# EAGLE library part GE06RP (library resistor-sil)
SIL RESISTOR
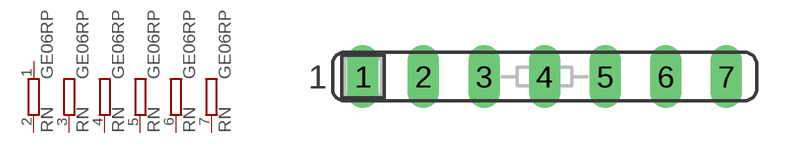
[diagram p29: symbol with the pads of SIL7; footprint SIL7]

Designator prefix RN; gates A=R-PV B=R-PV1 C=R-PV1 D=R-PV1 E=R-PV1 F=R-PV1

## GE06RP (OC_FARNELL: unknown; OC_NEWARK: unknown)  [SIL7]
1  A:1  pas
2  A:2  pas
3  B:2  pas
4  C:2  pas
5  D:2  pas
6  E:2  pas
7  F:2  pas

## Footprint SIL7 (pad centres in mm)
Single In Line
drill 0.813 long: 1 -7.62,0; 2 -5.08,0; 3 -2.54,0; 4 0,0; 5 2.54,0; 6 5.08,0; 7 7.62,0